# Altium schematic symbol library SCH - DAC - AD MAX5719GSD.SCHLIB: 1 symbol
Pins are listed as number, name and electrical type; pins without a type are passive.

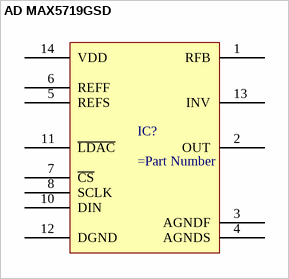
[diagram p0: symbol AD MAX5719GSD]

## AD MAX5719GSD
designator IC?
pins: 1 RFB, 2 OUT, 3 AGNDF, 4 AGNDS, 5 REFS, 6 REFF, 7 ~{CS}, 8 SCLK, 10 DIN, 11 ~{LDAC}, 12 DGND, 13 INV, 14 VDD